# Altium schematic symbol library SCH - MICROCONTROLLER - TI ISO7240.SCHLIB: 1 symbol
Pins are listed as number, name and electrical type; pins without a type are passive.

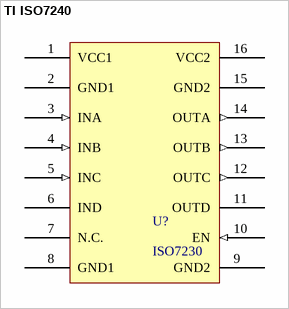
[diagram p0: symbol TI ISO7240]

## TI ISO7240
designator U?, comment ISO7230
High-Speed, quad-Channel Digital Isolator
pins: 1 VCC1 "Source Level 1", 2 GND1 "Ground Level 1", 3 INA (in) "Input Ch1", 4 INB (in) "Input Ch2", 5 INC (in) "Input Ch3", 6 IND "Not connected", 7 N.C. "Not connected", 8 GND1 "Ground Level 1", 9 GND2 "Ground Level 2", 10 EN (in) "Enable Ch1-3", 11 OUTD "Not connected", 12 OUTC (out) "Output Ch3", 13 OUTB (out) "Output Ch2", 14 OUTA (out) "Output Ch1", 15 GND2 "Ground Level 2", 16 VCC2 "Source Level 2"